# Altium schematic symbol library optic_fiber.SchLib: 10 symbols
Pins are listed as number, name and electrical type; pins without a type are passive.

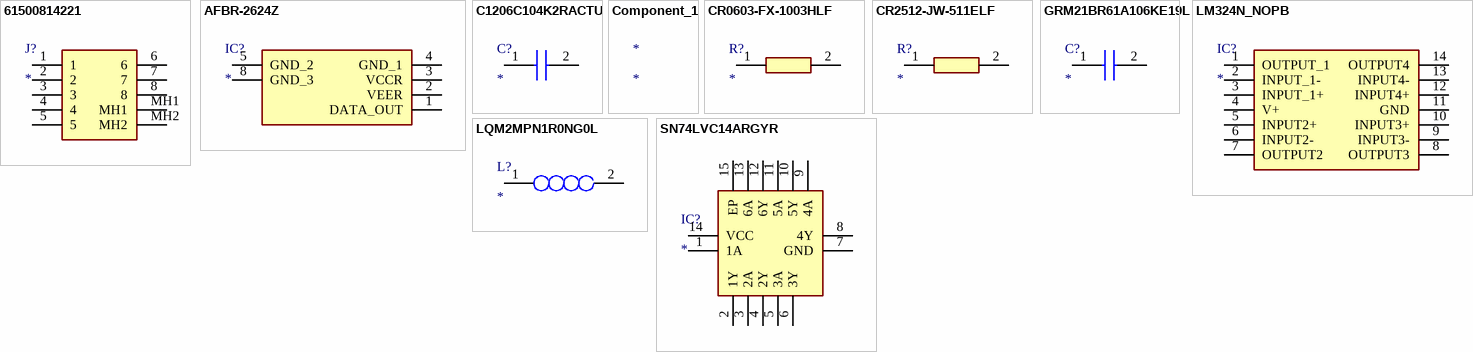
[diagram p0: symbols 61500814221 to SN74LVC14ARGYR]

## 61500814221
designator J?
Connector; Manufacturer_Name: Wurth Elektronik; Manufacturer_Part_Number: 61500814221; Description: Wurth Elektronik WR-MJ; Datasheet Link: http://katalog.we-online.de/em/datasheet/61500814221.pdf; Height: 16.53mm; Mouser Part Number: 710-61500814221; Mouser Price/Stock: https://www.mouser.co.uk/ProductDetail/Wurth-Elektronik/61500814221?qs=rS3zZhy2AQOW6FITBQg0lg%3D%3D
footprint 61500814221
pins: 1, 2, 3, 4, 5, 6, 7, 8, MH1, MH2

## AFBR-2624Z
designator IC?
Integrated Circuit; Manufacturer_Name: Avago Technologies; Manufacturer_Part_Number: AFBR-2624Z; Datasheet Link: https://docs.broadcom.com/doc/AV02-4369EN; Height: 7.6mm; Mouser Part Number: 630-AFBR-2624Z; Mouser Price/Stock: https://www.mouser.co.uk/ProductDetail/Broadcom-Avago/AFBR-2624Z?qs=60YbxKv0rtDJIJtl89oIpg%3D%3D
footprint AFBR2624Z
pins: 1 DATA_OUT, 2 VEER, 3 VCCR, 4 GND_1, 5 GND_2, 8 GND_3

## C1206C104K2RACTU
designator C?
Capacitor; Manufacturer_Name: KEMET; Manufacturer_Part_Number: C1206C104K2RACTU; Datasheet Link: https://content.kemet.com/datasheets/KEM_C1002_X7R_SMD.pdf; Mouser Part Number: 80-C1206C104K2R; Mouser Price/Stock: https://www.mouser.co.uk/ProductDetail/KEMET/C1206C104K2RACTU?qs=LfA%2FWGvkQbaiouETLouDXw%3D%3D; Arrow Part Number: C1206C104K2RACTU; Arrow Price/Stock: https://www.arrow.com/en/products/c1206c104k2ractu/kemet-corporation
footprint C1206
pins: 1, 2

## Component_1
designator *

## CR0603-FX-1003HLF
designator R?
Resistor; Manufacturer_Name: Bourns; Manufacturer_Part_Number: CR0603-FX-1003HLF; Description: SMD 0603 thick film resistor 100K 1% Bourns CR0603-FX Series Thick Film Surface Mount Fixed Resistor 0603 Case 100k +/-1% 0.1W +/-100ppm/C; Datasheet Link: https://www.bourns.com/pdfs/chpreztr.pdf; Height: 0.55mm; Mouser Part Number: 652-CR0603-FX1003HLF; Mouser Price/Stock: https://www.mouser.com/Search/Refine.aspx?Keyword=652-CR0603-FX1003HLF; Arrow Part Number: CR0603-FX-1003HLF; Arrow Price/Stock: https://www.arrow.com/en/products/cr0603-fx-1003hlf/bourns
footprint RESC1608X55N
pins: 1, 2

## CR2512-JW-511ELF
designator R?
Resistor; Manufacturer_Name: Bourns; Manufacturer_Part_Number: CR2512-JW-511ELF; Description: Thick Film Resistors - SMD 510OHM 1WATT 5%; Datasheet Link: https://datasheet.datasheetarchive.com/originals/distributors/SFDatasheet-7/sf-000140163.pdf; Height: 0.75mm; Mouser Part Number: 652-CR2512-JW-511ELF; Mouser Price/Stock: https://www.mouser.co.uk/ProductDetail/Bourns/CR2512-JW-511ELF?qs=DRGWdQRZRTUCe2ujtuVbwQ%3D%3D
footprint RESC6331X75N
pins: 1, 2

## GRM21BR61A106KE19L
designator C?
Capacitor; Manufacturer_Name: Murata Electronics; Manufacturer_Part_Number: GRM21BR61A106KE19L; Datasheet Link: http://www.murata.com/~/media/webrenewal/support/library/catalog/products/capacitor/mlcc/c02e.pdf; Height: 1.45mm; Mouser Part Number: 81-GRM21BR61A106KE19; Mouser Price/Stock: https://www.mouser.co.uk/ProductDetail/Murata-Electronics/GRM21BR61A106KE19L?qs=0E7Ycue1i8BtcgA7MBjH8A%3D%3D; Arrow Part Number: GRM21BR61A106KE19L; Arrow Price/Stock: https://www.arrow.com/en/products/grm21br61a106ke19l/murata-manufacturing
footprint CAPC2012X145N
pins: 1, 2

## LM324N_NOPB
designator IC?
Integrated Circuit; Manufacturer_Name: Texas Instruments; Manufacturer_Part_Number: LM324N/NOPB; Description: Low power general-purpose quad operational amplifier; Datasheet Link: http://www.ti.com/general/docs/lit/getliterature.tsp?genericPartNumber=LM324-N&fileType=pdf&HQS=ti-null-null-sf-df-pf-sep-wwe&DCM=yes; Height: 5.334mm; Mouser Part Number: 926-LM324N/NOPB; Mouser Price/Stock: https://www.mouser.co.uk/ProductDetail/Texas-Instruments/LM324N-NOPB?qs=X1J7HmVL2ZGOUbLumEeh2Q%3D%3D; Arrow Part Number: LM324N/NOPB; Arrow Price/Stock: https://www.arrow.com/en/products/lm324nnopb/texas-instruments?region=nac
footprint DIP794W56P254L1905H533Q14N
pins: 1 OUTPUT_1, 2 INPUT_1-, 3 INPUT_1+, 4 V+, 5 INPUT2+, 6 INPUT2-, 7 OUTPUT2, 8 OUTPUT3, 9 INPUT3-, 10 INPUT3+, 11 GND, 12 INPUT4+, 13 INPUT4-, 14 OUTPUT4

## LQM2MPN1R0NG0L
designator L?
Inductor; Manufacturer_Name: Murata Electronics; Manufacturer_Part_Number: LQM2MPN1R0NG0L; Datasheet Link: https://psearch.en.murata.com/inductor/product/LQM2MPN1R0NG0%23.html; Height: 1mm; Mouser Part Number: 81-LQM2MPN1R0NG0L; Mouser Price/Stock: https://www.mouser.co.uk/ProductDetail/Murata-Electronics/LQM2MPN1R0NG0L?qs=%2F%252BYoplLUB5g25EfGJxCkMg%3D%3D; Arrow Part Number: LQM2MPN1R0NG0L; Arrow Price/Stock: https://www.arrow.com/en/products/lqm2mpn1r0ng0l/murata-manufacturing?region=nac
footprint LQM2MPN1R0NG0L
pins: 1, 2

## SN74LVC14ARGYR
designator IC?
Integrated Circuit; Manufacturer_Name: Texas Instruments; Manufacturer_Part_Number: SN74LVC14ARGYR; Description: Hex Schmitt-Trigger Inverter; Datasheet Link: http://www.ti.com/lit/gpn/sn74lvc14a; Mouser Part Number: 595-SN74LVC14ARGYR; Mouser Price/Stock: https://www.mouser.co.uk/ProductDetail/Texas-Instruments/SN74LVC14ARGYR?qs=xJkDX%2FqrskODEoucJ5DYNg%3D%3D; Arrow Part Number: SN74LVC14ARGYR; Arrow Price/Stock: https://www.arrow.com/en/products/sn74lvc14argyr/texas-instruments?region=nac
footprint RGY-(S-PVQFN-N14)
pins: 1 1A, 2 1Y, 3 2A, 4 2Y, 5 3A, 6 3Y, 7 GND, 8 4Y, 9 4A, 10 5Y, 11 5A, 12 6Y, 13 6A, 14 VCC, 15 EP